# Altium footprint library KUOZHAN.PcbLib: 64 footprints (part 4 of 4)
Each footprint in its own frame and in the unit in brackets; x right, y up, seen from the top. Pads: shape width x height; smd on the part's side, far side on the other; paste and mask are expansions set on the pad; w line width, h text height; cw(c..) or ccw(c..) is an arc to the next point about the centre after c.
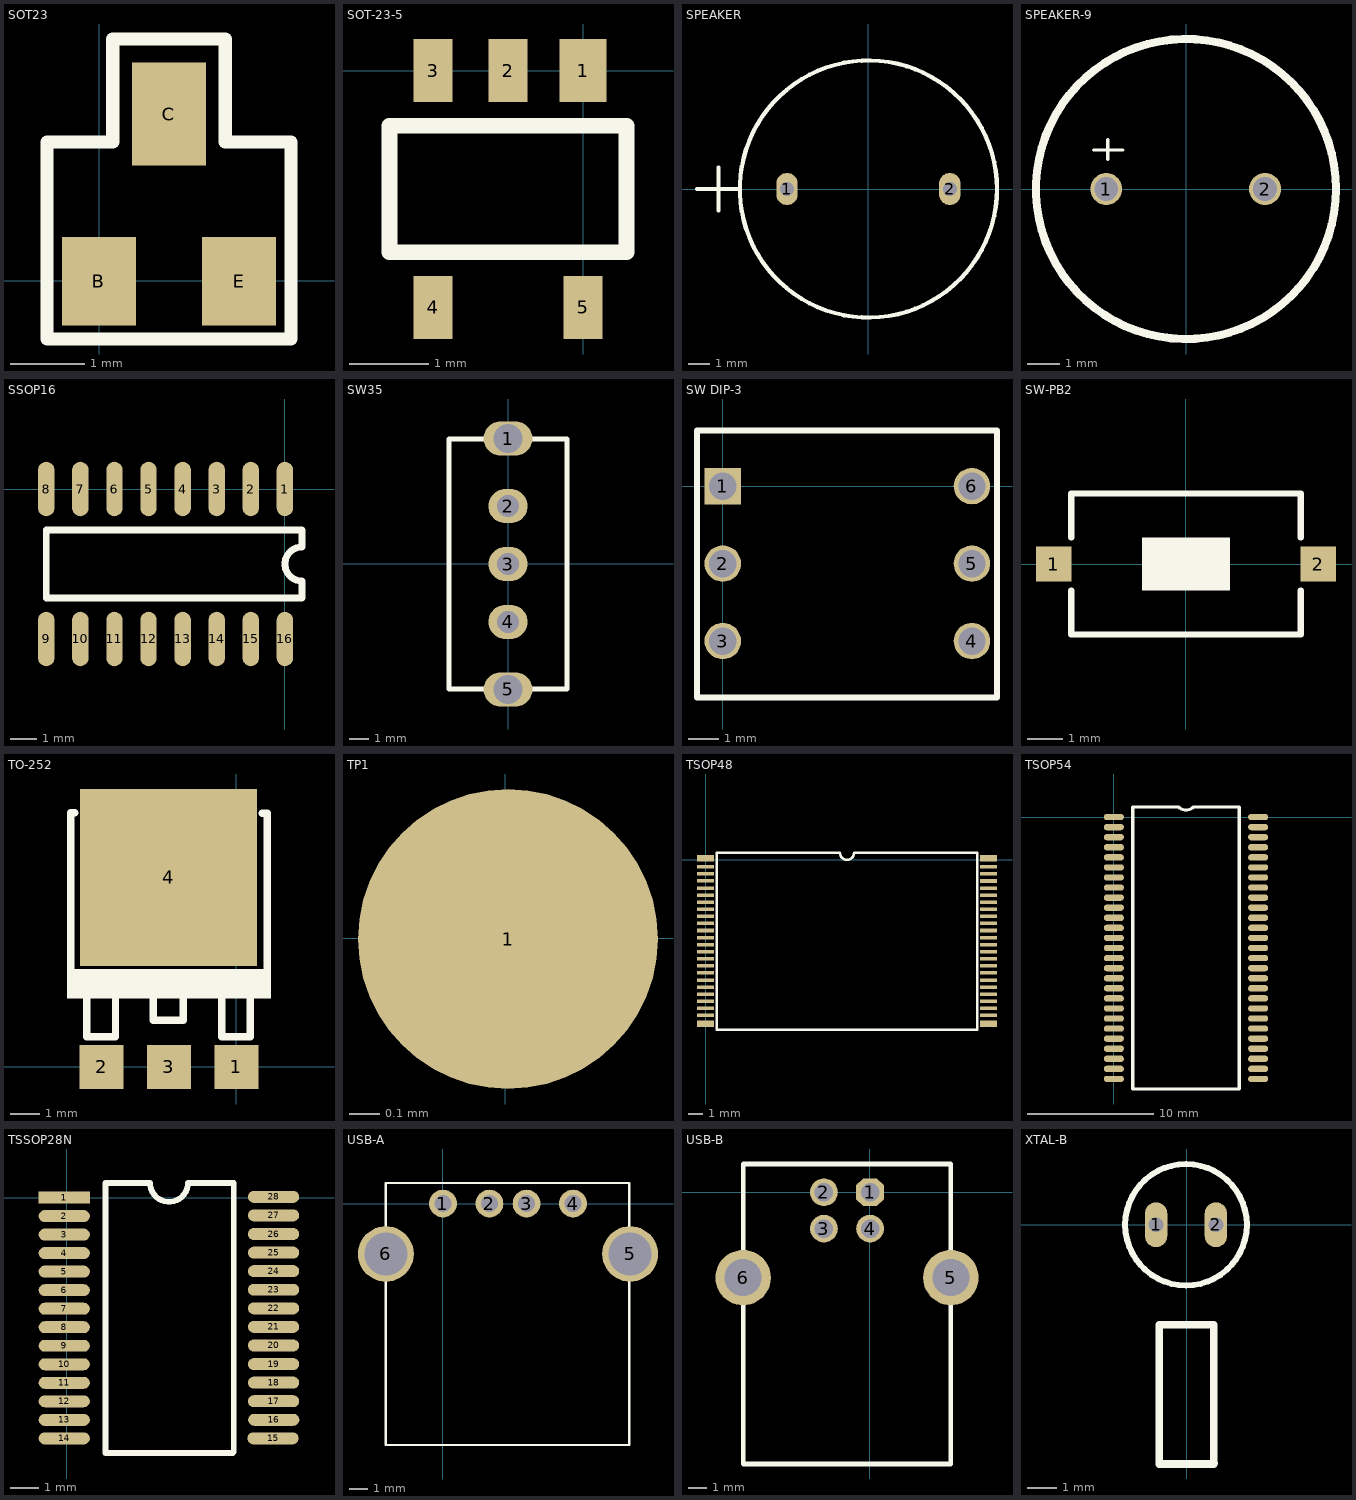
[diagram p3: the footprints below, top view; thin cyan lines are the x and y axes]

## SOT23 [mm]
pads (3):
  rect 1x1.2 smd: B(-0.006,-0.008) E(1.894,-0.008)
  rect 1x1.4 smd: C(0.944,2.258)
TopOverlay:
  lines w0.178: -0.707,-0.79 2.595,-0.79 2.595,1.877 1.706,1.877 1.706,3.274 0.182,3.274 0.182,1.877 -0.707,1.877 -0.707,-0.79

## SOT-23-5 [mm]
pads (5):
  rect 0.6x0.8 smd: 1(0,0)
  rect 0.5x0.8 smd: 2(-0.95,0) 3(-1.9,0) 4(-1.9,-3) 5(0,-3)
TopOverlay:
  lines w0.2: -2.45,-2.3 0.55,-2.3 0.55,-0.7 -2.45,-0.7 -2.45,-2.3

## SPEAKER [mm]
pads (2):
  oval 1x1.5 hole 0.65: 1(-3.792,0.018) 2(3.808,0.018)
TopOverlay:
  circle w0.2: c0.008,0.018 r6
  lines w0.2: -7.992,0.018 -5.992,0.018 ; -6.992,-0.982 -6.992,1.018

## SPEAKER-9 [mm]
pads (2):
  round 1 hole 0.75: 1(-2.5,0) 2(2.475,0)
TopOverlay:
  circle w0.254: c-0.001,0 r4.699
  lines w0.1: -2.9,1.225 -1.975,1.225 ; -2.45,0.925 -2.45,1.55

## SSOP16 [mil]
pads (16):
  oval 24x80 smd: 1(0,0) 2(-50,0) 3(-100,0) 4(-150,0) 5(-200,0) 6(-250,0) 7(-300,0) 8(-350,0) 9(-350,-220) 10(-300,-220) 11(-250,-220) 12(-200,-220) 13(-150,-220) 14(-100,-220) 15(-50,-220) 16(0,-220)
TopOverlay:
  lines w10: -350,-160 25,-160 25,-135 cw(c25,-110) 25,-85 25,-60 -350,-60 -350,-160

## SW35 [mil]
pads (5):
  oval 100x70 hole 60: 1(-0.26,255.08) 5(-0.26,-256.73)
  oval 80x70 hole 45: 2(-0.26,117.28) 3(-0.26,-0.83) 4(-0.26,-118.94)
TopOverlay:
  lines w10: -120.26,-255.83 -120.26,254.17 119.74,254.17 119.74,-255.83 -120.26,-255.83

## SW DIP-3 [mm]
pads (6):
  rect 1.2x1.2 hole 0.9: 1(0,0)
  round 1.2 hole 0.9: 2(0,-2.55) 3(0,-5.1) 4(8.2,-5.1) 5(8.2,-2.55) 6(8.2,0)
TopOverlay:
  lines w0.2: -0.85,-6.95 -0.85,1.825 9.025,1.825 9.025,-6.95 -0.85,-6.95

## SW-PB2 [mm]
pads (2):
  rect 1x1 smd: 1(-3.75,0) 2(3.75,0)
TopOverlay:
  rectangle: -1.25,-0.75 1.25,0.75
  lines w0.178: -3.25,-0.75 -3.25,-2 3.25,-2 3.25,-0.75 ; -3.25,0.75 -3.25,2 3.25,2 3.25,0.75

## TO-252 [mm]
pads (4):
  rect 1.5x1.5 smd: 1(0.003,-0.012) 2(-4.569,-0.012) 3(-2.283,-0.012)
  rect 6x6 smd: 4(-2.297,6.413)
TopOverlay:
  rectangle: -5.745,2.312 1.18,3.312
  lines w0.254: -5.622,3.138 -5.622,8.613 ; -5.597,8.613 -5.472,8.613 ; -5.072,2.263 -5.072,1.013 -4.097,1.013 -4.097,2.288 ; -2.822,2.263 -2.822,1.563 -1.797,1.563 -1.797,2.363 ; -0.497,2.263 -0.497,1.013 0.478,1.013 ; 0.478,2.288 0.478,1.013 ; 0.878,8.588 1.028,8.588 ; 1.053,3.163 1.053,8.588 ; 0.478,1.013 0.478,1.013

## TP1 [mm]
pads (1):
  round 1 smd: 1(0.009,-0.003)

## TSOP48 [mm]
pads (48):
  rect 1.2x0.45 smd: 1(-0.021,0.113) 24(-0.021,-11.587) 25(19.979,-11.587) 48(19.979,0.113)
  rect 1.2x0.25 smd: 2(-0.021,-0.487) 3(-0.021,-0.987) 4(-0.021,-1.487) 5(-0.021,-1.987) 6(-0.021,-2.487) 7(-0.021,-2.987) 8(-0.021,-3.487) 9(-0.021,-3.987) 10(-0.021,-4.487) 11(-0.021,-4.987) 12(-0.021,-5.487) 13(-0.021,-5.987) 14(-0.021,-6.487) 15(-0.021,-6.987) 16(-0.021,-7.487) 17(-0.021,-7.987) 18(-0.021,-8.487) 19(-0.021,-8.987) 20(-0.021,-9.487) 21(-0.021,-9.987) 22(-0.021,-10.487) 23(-0.021,-10.987) 26(19.979,-10.987) 27(19.979,-10.487) 28(19.979,-9.987) 29(19.979,-9.487) 30(19.979,-8.987) 31(19.979,-8.487) 32(19.979,-7.987) 33(19.979,-7.487) 34(19.979,-6.987) 35(19.979,-6.487) 36(19.979,-5.987) 37(19.979,-5.487) 38(19.979,-4.987) 39(19.979,-4.487) 40(19.979,-3.987) 41(19.979,-3.487) 42(19.979,-2.987) 43(19.979,-2.487) 44(19.979,-1.987) 45(19.979,-1.487) 46(19.979,-0.987) 47(19.979,-0.487)
TopOverlay:
  lines w0.178: 0.779,-11.987 0.779,0.513 9.479,0.513 ccw(c9.979,0.513) 10.479,0.513 19.179,0.513 19.179,-11.987 0.779,-11.987

## TSOP54 [mm]
pads (54):
  oval 1.6x0.5 smd: 1(-0.007,-0.003) 2(-0.007,-0.803) 3(-0.007,-1.603) 4(-0.007,-2.403) 5(-0.007,-3.203) 6(-0.007,-4.003) 7(-0.007,-4.803) 8(-0.007,-5.603) 9(-0.007,-6.403) 10(-0.007,-7.203) 11(-0.007,-8.003) 12(-0.007,-8.803) 13(-0.007,-9.603) 14(-0.007,-10.403) 15(-0.007,-11.203) 16(-0.007,-12.003) 17(-0.007,-12.803) 18(-0.007,-13.603) 19(-0.007,-14.403) 20(-0.007,-15.203) 21(-0.007,-16.003) 22(-0.007,-16.803) 23(-0.007,-17.603) 24(-0.007,-18.403) 25(-0.007,-19.203) 26(-0.007,-20.003) 27(-0.007,-20.803) 28(11.453,-20.803) 29(11.453,-20.003) 30(11.453,-19.203) 31(11.453,-18.403) 32(11.453,-17.603) 33(11.453,-16.803) 34(11.453,-16.003) 35(11.453,-15.203) 36(11.453,-14.403) 37(11.453,-13.603) 38(11.453,-12.803) 39(11.453,-12.003) 40(11.453,-11.203) 41(11.453,-10.403) 42(11.453,-9.603) 43(11.453,-8.803) 44(11.453,-8.003) 45(11.453,-7.203) 46(11.453,-6.403) 47(11.453,-5.603) 48(11.453,-4.803) 49(11.453,-4.003) 50(11.453,-3.203) 51(11.453,-2.403) 52(11.453,-1.603) 53(11.453,-0.803) 54(11.453,-0.003)
TopOverlay:
  lines w0.254: 1.493,-21.603 1.493,0.797 5.132,0.797 ccw(c5.723,1.388) 6.314,0.797 9.953,0.797 9.953,-21.603 1.493,-21.603

## TSSOP28N [mm]
pads (28):
  rect 1.8x0.42 smd: 1(-0.081,0.004)
  oval 1.8x0.42 smd: 2(-0.081,-0.646) 3(-0.081,-1.296) 4(-0.081,-1.946) 5(-0.081,-2.596) 6(-0.081,-3.246) 7(-0.081,-3.896) 8(-0.081,-4.546) 9(-0.081,-5.196) 10(-0.081,-5.846) 11(-0.081,-6.496) 12(-0.081,-7.146) 13(-0.081,-7.796) 14(-0.081,-8.446) 15(7.244,-8.446) 16(7.269,-7.794) 17(7.265,-7.142) 18(7.265,-6.49) 19(7.265,-5.838) 20(7.265,-5.186) 21(7.265,-4.534) 22(7.265,-3.882) 23(7.265,-3.23) 24(7.265,-2.579) 25(7.265,-1.927) 26(7.265,-1.275) 27(7.265,-0.623) 28(7.265,0.029)
TopOverlay:
  lines w0.204: 5.833,-8.96 1.364,-8.96 1.364,0.518 2.929,0.518 ccw(c3.594,0.518) 4.258,0.518 5.864,0.518 5.864,-7.757 5.864,-8.929

## USB-A [mm]
pads (6):
  round 1.5 hole 0.92: 1(0.009,0.013) 2(2.509,0.013) 3(4.509,0.013) 4(7.009,0.013)
  round 3 hole 2.3: 5(10.079,-2.697) 6(-3.061,-2.697)
TopOverlay:
  lines w0.127: -3.061,-12.977 10.039,-12.977 10.039,1.123 -3.061,1.123 -3.061,-2.697 -3.061,-12.977

## USB-B [mil]
pads (6):
  oct 60x60 hole 40: 1(0.24,0.17)
  round 60 hole 40: 2(-99.76,0.17) 3(-99.76,-78.57) 4(0.24,-78.57)
  round 120 hole 80: 5(175.24,-184.87) 6(-274.76,-184.87)
TopOverlay:
  lines w10: -274.76,-588.57 175.24,-588.57 175.24,61.43 -274.76,61.43 -274.76,-588.57

## XTAL-B [mm]
pads (2):
  oval 0.75x1.5 hole 0.5: 1(-1.02,0.001) 2(0.98,0.001)
TopOverlay:
  circle w0.2: c-0.02,0.001 r2.032
  lines w0.254: 0.93,-7.974 0.905,-7.999 ; 0.905,-7.999 0.905,-3.349 -0.92,-3.349 -0.92,-7.999 0.905,-7.999